# Altium integrated library LDSC512RI.IntLib: 1 symbol
Pins are listed as number, name and electrical type; pins without a type are passive.

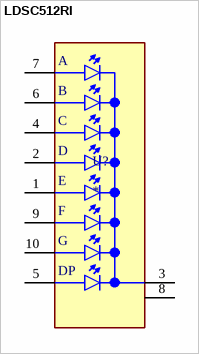
[diagram p0: symbol LDSC512RI]

## LDSC512RI
designator U?
.56IN. 7 SEGMENT SINGLE DISPLAY, 565NM GREEN, GRAY FACE, WHITE SEGMENTS, COMMON | Lumex LDS-C512RI; SnapEDA_Link: https://www.snapeda.com/parts/LDS-C512RI/Lumex/view-part/?ref=snap; Package: None; Value: *; MF: Lumex; MP: LDS-C512RI; Check_prices: https://www.snapeda.com/parts/LDS-C512RI/Lumex/view-part/?ref=eda
footprint LED_LDSC512RI
pins: 1 E, 2 D, 3 CC, 4 C, 5 DP, 6 B, 7 A, 8 CC, 9 F, 10 G